# Altium schematic symbol library CypressBLE.SchLib: 1 symbol
Pins are listed as number, name and electrical type; pins without a type are passive.

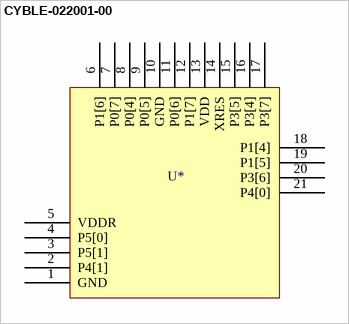
[diagram p0: symbol CYBLE-022001-00]

## CYBLE-022001-00
designator U*  (value not drawn)
Cypress BLE module; Part number: CYBLE-022001-00; Manufacture: Cypress
footprint CYBLE-022001-00 (Cypress BLE module)
pins: 1 GND, 2 P4[1], 3 P5[1], 4 P5[0], 5 VDDR, 6 P1[6], 7 P0[7], 8 P0[4], 9 P0[5], 10 GND, 11 P0[6], 12 P1[7], 13 VDD, 14 XRES, 15 P3[5], 16 P3[4], 17 P3[7], 18 P1[4], 19 P1[5], 20 P3[6], 21 P4[0]